# EAGLE library part OPA637M (library burr-brown)
Difet(R) Operational Amplifiers Precision, High-Speed
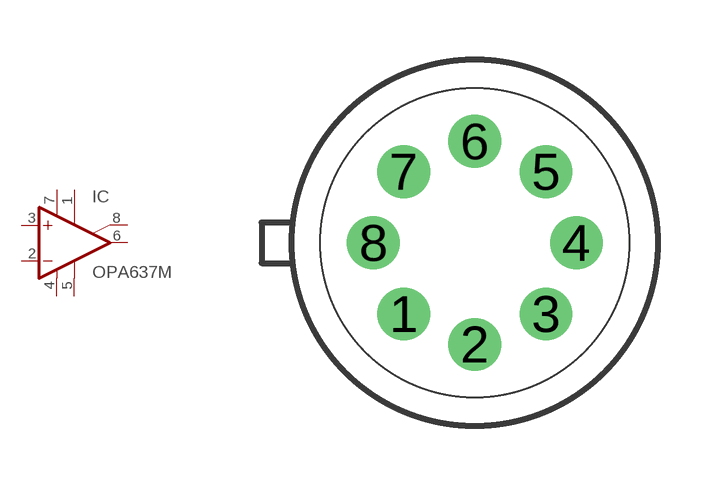
[diagram p85: symbol with the pads of TO99; footprint TO99]

Designator prefix IC

## OPA637M (MPN: OPA637AM; OC_FARNELL: 1459640; OC_NEWARK: 61M8069)  [TO99]
1  TRIM1  pas
2  -IN  in
3  +IN  in
4  V-  pwr
5  TRIM2  pas
6  OUT  out
7  V+  pwr
8  CASE  pas

## Footprint TO99 (pad centres in mm)
Metal can Package
drill 0.813 round: 1 -1.778,-1.778; 2 0,-2.54; 3 1.778,-1.778; 4 2.54,0; 5 1.778,1.778; 6 0,2.54; 7 -1.778,1.778; 8 -2.54,0